# EAGLE library part XH2.54-7P (library chip)
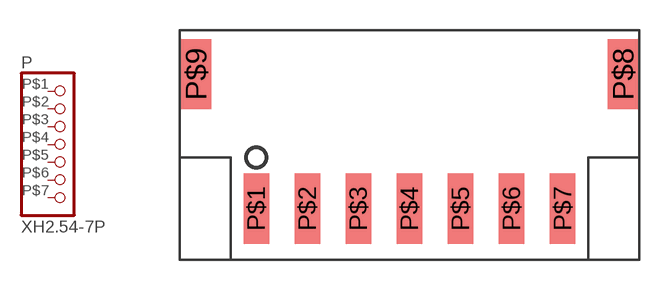
[diagram p12: symbol with the pads of XH2.54; footprint XH2.54]

Designator prefix P

## XH2.54-7P  [XH2.54]
P$1  1  pas
P$2  2  pas
P$3  3  pas
P$4  4  pas
P$5  5  pas
P$6  6  pas
P$7  7  pas

## Footprint XH2.54 (pad centres in mm)
smd 1.27 x 3.5: P$1 0,0; P$2 2.54,0; P$3 5.08,0; P$4 7.62,0; P$5 10.16,0; P$6 12.7,0; P$7 15.24,0
smd 1.5 x 3.5: P$8 18.24,6.7; P$9 -3,6.7